# Altium footprint library B9_HashBoard.PcbLib: 47 footprints (part 1 of 3)
Each footprint in its own frame and in the unit in brackets; x right, y up, seen from the top. Pads: shape width x height; smd on the part's side, far side on the other; paste and mask are expansions set on the pad; w line width, h text height; cw(c..) or ccw(c..) is an arc to the next point about the centre after c.
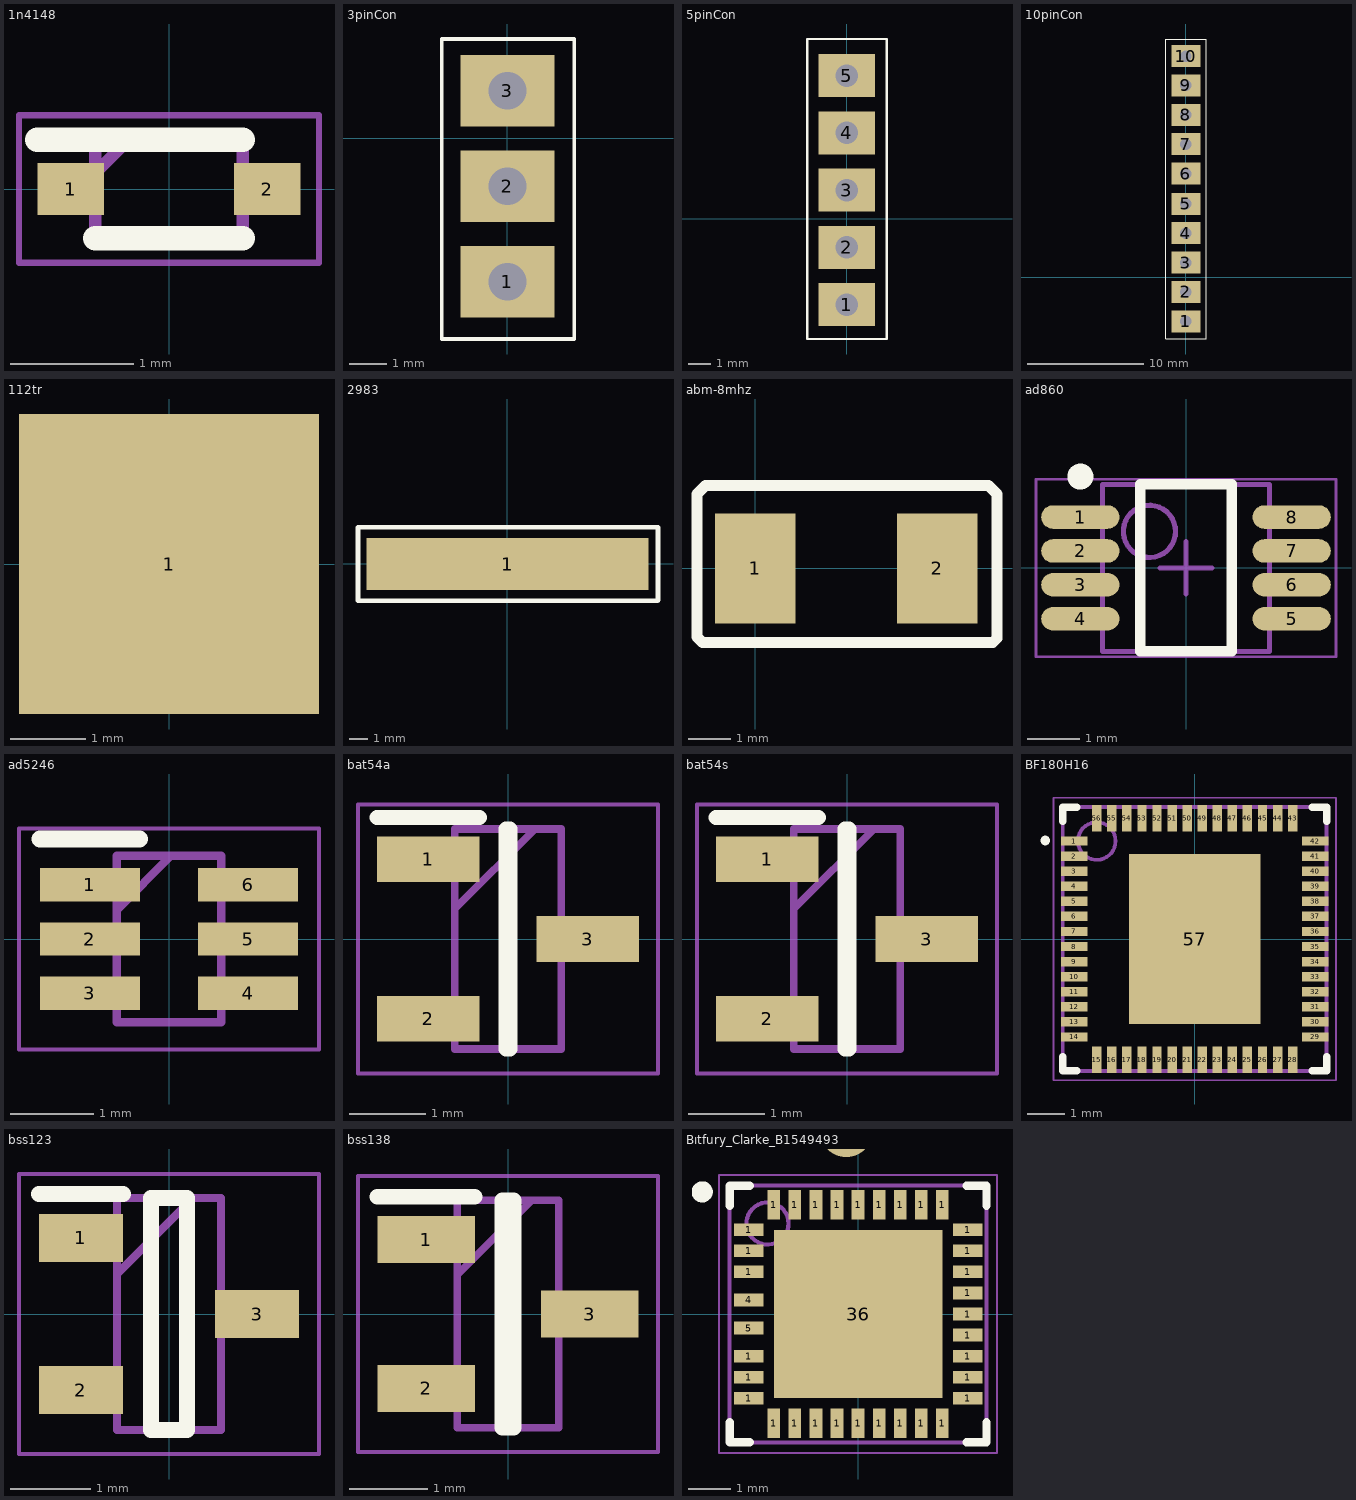
[diagram p0: the footprints below, top view; thin cyan lines are the x and y axes]

## 1n4148 [mm]
pads (2):
  rect 0.54x0.42 smd: 1(-0.8,0) 2(0.8,0)
Top Overlay:
  lines w0.2: -1.07,0.4 0.6,0.4 ; -0.6,-0.4 0.6,-0.4
Mechanical 13:
  lines w0.1: -0.6,0.13 -0.33,0.4 ; -0.6,-0.4 -0.6,0.4 0.6,0.4 0.6,-0.4 -0.6,-0.4
Mechanical 15:
  lines w0.05: -1.22,-0.6 -1.22,0.6 1.22,0.6 1.22,-0.6 -1.22,-0.6
3D body "1N4148WT.stp": height 0.7, standoff 0, extent -0.8,-0.4 0.8,0.4

## 3pinCon [mm]
pads (3):
  rect 2.5x1.9 hole 1: 1(0,-3.81) 2(0,-1.27) 3(0,1.27)
Top Overlay:
  lines w0.1: -1.75,-5.334 -1.75,2.642 1.778,2.642 1.778,-5.334 0.515,-5.334 -0.487,-5.334 -1.75,-5.334

## 5pinCon [mm]
pads (5):
  rect 2.5x1.9 hole 1: 1(0,-3.81) 2(0,-1.27) 3(0,1.27) 4(0,3.81) 5(0,6.35)
Top Overlay:
  lines w0.1: -1.75,-5.334 -1.75,7.975 1.778,7.975 1.778,-5.334 0.515,-5.334 -0.487,-5.334 -1.75,-5.334

## 10pinCon [mm]
pads (10):
  rect 2.5x1.9 hole 1: 1(0,-3.81) 2(0,-1.27) 3(0,1.27) 4(0,3.81) 5(0,6.35) 6(0,8.965) 7(0,11.505) 8(0,14.045) 9(0,16.585) 10(0,19.125)
Top Overlay:
  lines w0.1: -1.75,-5.334 -0.487,-5.334 0.515,-5.334 1.778,-5.334 1.778,20.6 -1.75,20.6 -1.75,-5.334

## 112tr [mm]
pads (1):
  rect 4x4 smd: 1(0,0)

## 2983 [mm]
pads (1):
  rect 15x2.79 smd: 1(0.025,-0.025)
Top Overlay:
  lines w0.254: -7.925,-1.981 -7.925,1.93 8.026,1.93 8.026,-1.956 8.001,-1.981 -7.925,-1.981

## 90572-1101 [mm]

## abm-8mhz [mm]
pads (2):
  rect 1.9x2.6 smd: 1(0,0) 2(4.3,0)
Top Overlay:
  lines w0.254: -1.372,-1.626 -1.372,1.753 -1.168,1.956 5.512,1.956 5.715,1.753 5.715,-1.651 5.613,-1.753 -1.245,-1.753 -1.372,-1.626

## ad860 [mm] "SOP, 8-Leads, Body 3x3mm, Pitch 0.65mm, IPC High Density"
height 1.1
pads (8):
  oval 1.5x0.45 smd: 1(-2.025,0.975) 2(-2.025,0.325) 3(-2.025,-0.325) 4(-2.025,-0.975) 5(2.025,-0.975) 6(2.025,-0.325) 7(2.025,0.325) 8(2.025,0.975)
Top Overlay:
  circle w0.25: c-2.025,1.75 r0.125
  lines w0.2: -0.875,-1.6 0.875,-1.6 0.875,1.6 -0.875,1.6 -0.875,-1.6
Mechanical 13:
  circle w0.1: c-0.7,0.7 r0.5
  lines w0.1: -1.6,-1.6 1.6,-1.6 1.6,1.6 -1.6,1.6 -1.6,-1.6
Mechanical 15:
  lines w0.05: -2.875,-1.7 2.875,-1.7 2.875,1.7 -2.875,1.7 -2.875,-1.7
  lines w0.1: -0.5,0 0.5,0 ; 0,-0.5 0,0.5
3D body: height 1.1, standoff 0, extent -1.6,-1.6 1.6,1.6

## ad5246 [mm]
pads (6):
  rect 1.2x0.4 smd: 1(-0.95,0.65) 2(-0.95,0) 3(-0.95,-0.65) 4(0.95,-0.65) 5(0.95,0) 6(0.95,0.65)
Top Overlay:
  lines w0.2: -1.55,1.2 -0.35,1.2
Mechanical 13:
  lines w0.1: -0.625,0.35 0.025,1 ; -0.625,-1 0.625,-1 0.625,1 -0.625,1 -0.625,-1
Mechanical 15:
  lines w0.05: -1.8,-1.325 1.8,-1.325 1.8,1.325 -1.8,1.325 -1.8,-1.325
3D body "TS5A9411DCKR.stp": height 1.1, standoff 0, extent -1.05,-1 1.05,1

## bat54a [mm]
pads (3):
  rect 1.35x0.6 smd: 1(-1.05,1.05) 2(-1.05,-1.05) 3(1.05,0)
Top Overlay:
  lines w0.2: -1.725,1.6 -0.375,1.6 ; -0.025,-1.448 -0.025,1.448 0.025,1.448 0.025,-1.448 -0.025,-1.448
Mechanical 13:
  lines w0.1: -0.7,0.398 0.35,1.448 ; -0.7,-1.448 -0.7,1.448 0.7,1.448 0.7,-1.448 -0.7,-1.448
Mechanical 15:
  lines w0.05: -1.975,-1.77 -1.975,1.77 1.975,1.77 1.975,-1.77 -1.975,-1.77
3D body "BAT54A.stp": height 1.5, standoff 0, extent -1.212,-1.448 1.212,1.448

## bat54s [mm]
pads (3):
  rect 1.35x0.6 smd: 1(-1.05,1.05) 2(-1.05,-1.05) 3(1.05,0)
Top Overlay:
  lines w0.2: -1.725,1.6 -0.375,1.6 ; -0.025,-1.448 -0.025,1.448 0.025,1.448 0.025,-1.448 -0.025,-1.448
Mechanical 13:
  lines w0.1: -0.7,0.398 0.35,1.448 ; -0.7,-1.448 -0.7,1.448 0.7,1.448 0.7,-1.448 -0.7,-1.448
Mechanical 15:
  lines w0.05: -1.975,-1.77 -1.975,1.77 1.975,1.77 1.975,-1.77 -1.975,-1.77
3D body "BAT54A.stp": height 1.5, standoff 0, extent -1.212,-1.448 1.212,1.448

## BF180H16 [mm] "PQFN, 56-Leads, Body 7,00x7,00mm, Pitch 0,40mm, Thermal Pad 4,58x4,58mm, IPC Medium Density"
height 0.81
pads (57):
  rect 0.7x0.25 smd mask+0.05: 1(-3.2,2.6) 2(-3.2,2.2) 3(-3.2,1.8) 4(-3.2,1.4) 5(-3.2,1) 6(-3.2,0.6) 7(-3.2,0.2) 8(-3.2,-0.2) 9(-3.2,-0.6) 10(-3.2,-1) 11(-3.2,-1.4) 12(-3.2,-1.8) 13(-3.2,-2.2) 14(-3.2,-2.6) 29(3.2,-2.6) 30(3.2,-2.2) 31(3.2,-1.8) 32(3.2,-1.4) 33(3.2,-1) 34(3.2,-0.6) 35(3.2,-0.2) 36(3.2,0.2) 37(3.2,0.6) 38(3.2,1) 39(3.2,1.4) 40(3.2,1.8) 41(3.2,2.2) 42(3.2,2.6)
  rect 0.25x0.7 smd mask+0.05: 15(-2.6,-3.2) 16(-2.2,-3.2) 17(-1.8,-3.2) 18(-1.4,-3.2) 19(-1,-3.2) 20(-0.6,-3.2) 21(-0.2,-3.2) 22(0.2,-3.2) 23(0.6,-3.2) 24(1,-3.2) 25(1.4,-3.2) 26(1.8,-3.2) 27(2.2,-3.2) 28(2.6,-3.2) 43(2.6,3.2) 44(2.2,3.2) 45(1.8,3.2) 46(1.4,3.2) 47(1,3.2) 48(0.6,3.2) 49(0.2,3.2) 50(-0.2,3.2) 51(-0.6,3.2) 52(-1,3.2) 53(-1.4,3.2) 54(-1.8,3.2) 55(-2.2,3.2) 56(-2.6,3.2)
  rect 3.5x4.5 smd: 57(0,0)
Top Overlay:
  lines w0.2: -3.5,-3.125 -3.5,-3.5 -3.125,-3.5 ; -3.5,3.125 -3.5,3.5 -3.125,3.5 ; 3.125,-3.5 3.5,-3.5 3.5,-3.125 ; 3.125,3.5 3.5,3.5 3.5,3.125
  lines w0.25: -3.963,2.605 ccw(c-4.087,2.616) -3.962,2.616
Mechanical 13:
  circle w0.1: c-2.6,2.6 r0.5
  lines w0.1: -3.5,-3.5 -3.5,3.5 3.5,3.5 3.5,-3.5 -3.5,-3.5
Mechanical 15:
  lines w0.05: -3.75,-3.75 -3.75,3.75 3.75,3.75 3.75,-3.75 -3.75,-3.75
  lines w0.1: -0.5,0 0.5,0 ; 0,-0.5 0,0.5
3D body: height 0.81, standoff 0, extent -3.5,-3.5 3.5,3.5

## bss123 [mm]
pads (3):
  rect 1.05x0.6 smd: 1(-1.1,0.95) 2(-1.1,-0.95) 3(1.1,0)
Top Overlay:
  lines w0.2: -1.625,1.5 -0.575,1.5 ; -0.225,-1.45 0.225,-1.45 0.225,1.45 -0.225,1.45 -0.225,-1.45
Mechanical 13:
  lines w0.1: -0.65,0.5 0.3,1.45 ; -0.65,-1.45 0.65,-1.45 0.65,1.45 -0.65,1.45 -0.65,-1.45
Mechanical 15:
  lines w0.05: -1.875,-1.75 1.875,-1.75 1.875,1.75 -1.875,1.75 -1.875,-1.75
3D body "PMBTA92,215.stp": height 1.1, standoff 0, extent -1.15,-1.45 1.15,1.45

## bss138 [mm]
pads (3):
  rect 1.25x0.6 smd: 1(-1.05,0.955) 2(-1.05,-0.955) 3(1.05,0)
Top Overlay:
  lines w0.2: -1.675,1.505 -0.425,1.505 ; -0.075,-1.46 0.075,-1.46 0.075,1.46 -0.075,1.46 -0.075,-1.46
Mechanical 13:
  lines w0.1: -0.65,0.505 0.305,1.46 ; -0.65,-1.46 0.65,-1.46 0.65,1.46 -0.65,1.46 -0.65,-1.46
Mechanical 15:
  lines w0.05: -1.925,-1.77 1.925,-1.77 1.925,1.77 -1.925,1.77 -1.925,-1.77
3D body "BSS138LT7G.stp": height 1.11, standoff 0, extent -1.185,-1.46 1.185,1.46

## Bıtfury_Clarke_B1549493 [mm] "PQFN, 36-Leads, Body 6,00x6,00mm, Pitch 0,50mm, Thermal Pad 3,08x3,08mm, IPC Medium Density"
height 0.81
pads (36):
  rect 0.7x0.3 smd mask+0.05: 1(-2.6,-2) 1(-2.6,-1.5) 1(-2.6,-1) 1(-2.6,1) 1(-2.6,1.5) 1(-2.6,2) 1(2.6,-2) 1(2.6,-1.5) 1(2.6,-1) 1(2.6,-0.5) 1(2.6,0) 1(2.6,0.5) 1(2.6,1) 1(2.6,1.5) 1(2.6,2) 4(-2.6,0.333) 5(-2.6,-0.333)
  rect 0.3x0.7 smd mask+0.05: 1(-2,-2.6) 1(-2,2.6) 1(-1.5,-2.6) 1(-1.5,2.6) 1(-1,-2.6) 1(-1,2.6) 1(-0.5,-2.6) 1(-0.5,2.6) 1(0,-2.6) 1(0,2.6) 1(0.5,-2.6) 1(0.5,2.6) 1(1,-2.6) 1(1,2.6) 1(1.5,-2.6) 1(1.5,2.6) 1(2,-2.6) 1(2,2.6)
  rect 4x4 smd: 36(0,0)
via -0.279,4.369 diameter 1.27 hole 0.711
Top Overlay:
  circle w0.25: c-3.7,2.9 r0.125
  lines w0.2: -3.05,-2.575 -3.05,-3.05 -2.575,-3.05 ; -3.05,2.575 -3.05,3.05 -2.575,3.05 ; 2.575,-3.05 3.05,-3.05 3.05,-2.575 ; 2.575,3.05 3.05,3.05 3.05,2.575
Mechanical 13:
  circle w0.1: c-2.15,2.15 r0.5
  lines w0.1: -3.05,-3.05 3.05,-3.05 3.05,3.05 -3.05,3.05 -3.05,-3.05
Mechanical 15:
  lines w0.05: -3.3,-3.3 3.3,-3.3 3.3,3.3 -3.3,3.3 -3.3,-3.3
  lines w0.1: -0.5,0 0.5,0 ; 0,-0.5 0,0.5
3D body: height 0.81, standoff 0, extent -3.05,-3.05 3.05,3.05